# Altium schematic symbol library 387206305.SchLib: 1 symbol
Pins are listed as number, name and electrical type; pins without a type are passive.

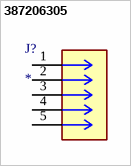
[diagram p0: symbol 387206305]

## 387206305
designator J?
5 Circuit 0.375 (9.53mm) Barrier Block Connector Screws; MF: Molex; MP: 387206305; SnapEDA_Link: https://www.snapeda.com/parts/387206305/Molex/view-part/?ref=snap; Package: None; Value: *; Check_prices: https://www.snapeda.com/parts/387206305/Molex/view-part/?ref=eda
footprint CONN_38720-6305_MOL
pins: 1, 2, 3, 4, 5